# Altium footprint library Eink_Smartwatch.PcbLib: 14 footprints
Each footprint in its own frame and in the unit in brackets; x right, y up, seen from the top. Pads: shape width x height; smd on the part's side, far side on the other; paste and mask are expansions set on the pad; w line width, h text height; cw(c..) or ccw(c..) is an arc to the next point about the centre after c.
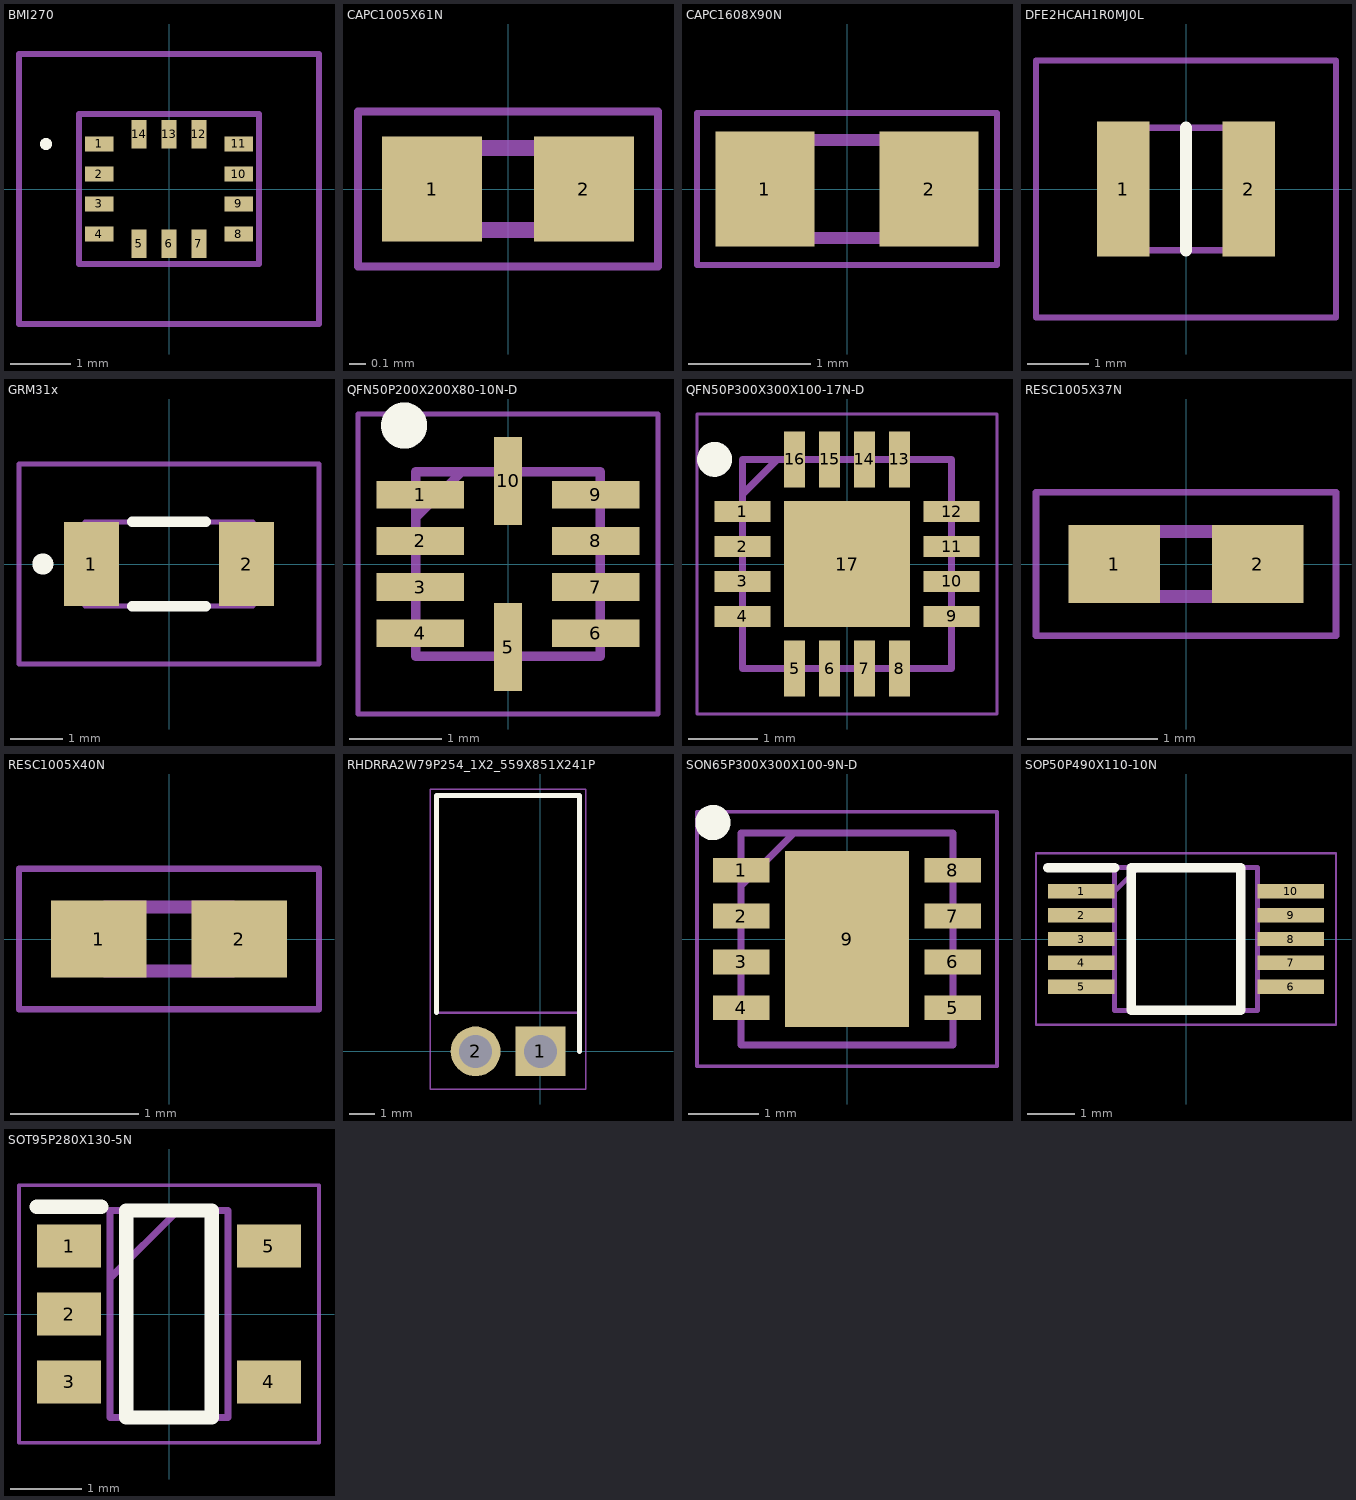
[diagram p0: the footprints below, top view; thin cyan lines are the x and y axes]

## BMI270 [mm]
pads (14):
  rect 0.475x0.25 smd: 1(-1.163,0.75) 2(-1.163,0.25) 3(-1.163,-0.25) 4(-1.163,-0.75) 8(1.163,-0.75) 9(1.163,-0.25) 10(1.163,0.25) 11(1.163,0.75)
  rect 0.25x0.475 smd: 5(-0.5,-0.913) 6(0,-0.913) 7(0.5,-0.913) 12(0.5,0.913) 13(0,0.913) 14(-0.5,0.913)
Top Overlay:
  lines w0.1: -2.1,0.75 ccw(c-2.05,0.75) -2,0.75 ccw(c-2.05,0.75) -2.1,0.75
Mechanical 13:
  lines w0.1: -1.5,-1.25 1.5,-1.25 1.5,1.25 -1.5,1.25 -1.5,-1.25
Mechanical 15:
  lines w0.1: -2.5,-2.25 2.5,-2.25 2.5,2.25 -2.5,2.25 -2.5,-2.25
3D body "BMI270.stp": height 0.97, standoff 0, extent -1.5,-1.25 1.5,1.25

## CAPC1005X61N [mm]
pads (2):
  rect 0.62x0.65 smd: 1(-0.47,0) 2(0.47,0)
Mechanical 13:
  lines w0.1: -0.51,-0.255 -0.51,0.255 0.51,0.255 0.51,-0.255 -0.51,-0.255
Mechanical 15:
  lines w0.05: -0.93,-0.48 -0.93,0.48 0.93,0.48 0.93,-0.48 -0.93,-0.48
3D body "0402X7R104KT7AT.stp": height 0.61, standoff 0, extent -0.51,-0.255 0.51,0.255

## CAPC1608X90N [mm]
pads (2):
  rect 0.81x0.94 smd: 1(-0.67,0) 2(0.67,0)
Mechanical 13:
  lines w0.1: -0.8,-0.4 0.8,-0.4 0.8,0.4 -0.8,0.4 -0.8,-0.4
Mechanical 15:
  lines w0.05: -1.225,-0.62 1.225,-0.62 1.225,0.62 -1.225,0.62 -1.225,-0.62
3D body "LMK107BJ106MALTD.stp": height 0.9, standoff 0, extent -0.8,-0.4 0.8,0.4

## DFE2HCAH1R0MJ0L [mm]
pads (2):
  rect 0.85x2.2 smd: 1(-1.025,0) 2(1.025,0)
Top Overlay:
  lines w0.2: 0,-1 0,1
Mechanical 13:
  lines w0.1: -1.25,-1 -1.25,1 1.25,1 1.25,-1 -1.25,-1
Mechanical 15:
  lines w0.1: -2.45,-2.1 -2.45,2.1 2.45,2.1 2.45,-2.1 -2.45,-2.1
3D body "1239AS-H-100M=P2.stp": height 1.2, standoff 0, extent -1.25,-1 1.25,1

## GRM31x [mm]
pads (2):
  rect 1.05x1.6 smd: 1(-1.475,0) 2(1.475,0)
Top Overlay:
  lines w0.2: -0.7,-0.8 0.7,-0.8 ; -0.7,0.8 0.7,0.8 ; -2.4,-0.1 ccw(c-2.4,0) -2.4,0.1 ccw(c-2.4,0) -2.4,-0.1
Mechanical 13:
  lines w0.1: -1.6,-0.8 -1.6,0.8 1.6,0.8 1.6,-0.8 -1.6,-0.8
Mechanical 15:
  lines w0.1: -2.854,-1.902 -2.854,1.902 2.854,1.902 2.854,-1.902 -2.854,-1.902
3D body "GRM31CZ72A475KE11K.stp": height 1, standoff 0, extent -1.6,-0.8 1.6,0.8

## PCBComponent_1 [mm]

## QFN50P200X200X80-10N-D [mm]
pads (10):
  rect 0.95x0.3 smd: 1(-0.95,0.75) 2(-0.95,0.25) 3(-0.95,-0.25) 4(-0.95,-0.75) 6(0.95,-0.75) 7(0.95,-0.25) 8(0.95,0.25) 9(0.95,0.75)
  rect 0.3x0.95 smd: 5(0,-0.9) 10(0,0.9)
Top Overlay:
  circle w0.25: c-1.125,1.5 r0.125
Mechanical 13:
  lines w0.1: -1,0.5 -0.5,1 ; -1,-1 -1,1 1,1 1,-1 -1,-1
Mechanical 15:
  lines w0.05: -1.625,-1.625 -1.625,1.625 1.625,1.625 1.625,-1.625 -1.625,-1.625
3D body "DRV2603RUNT.stp": height 0.8, standoff 0, extent -1,-1 1,1

## QFN50P300X300X100-17N-D [mm]
pads (17):
  rect 0.8x0.3 smd: 1(-1.5,0.75) 2(-1.5,0.25) 3(-1.5,-0.25) 4(-1.5,-0.75) 9(1.5,-0.75) 10(1.5,-0.25) 11(1.5,0.25) 12(1.5,0.75)
  rect 0.3x0.8 smd: 5(-0.75,-1.5) 6(-0.25,-1.5) 7(0.25,-1.5) 8(0.75,-1.5) 13(0.75,1.5) 14(0.25,1.5) 15(-0.25,1.5) 16(-0.75,1.5)
  rect 1.8x1.8 smd: 17(0,0)
Top Overlay:
  circle w0.25: c-1.9,1.5 r0.125
Mechanical 13:
  lines w0.1: -1.5,1 -1,1.5 ; -1.5,-1.5 -1.5,1.5 1.5,1.5 1.5,-1.5 -1.5,-1.5
Mechanical 15:
  lines w0.05: -2.15,-2.15 -2.15,2.15 2.15,2.15 2.15,-2.15 -2.15,-2.15
3D body "BQ24075TRGTR.stp": height 1, standoff 0, extent -1.55,-1.55 1.55,1.55

## RESC1005X37N [mm]
pads (2):
  rect 0.7x0.6 smd: 1(-0.55,0) 2(0.55,0)
Mechanical 13:
  lines w0.1: -0.5,-0.25 -0.5,0.25 0.5,0.25 0.5,-0.25 -0.5,-0.25
Mechanical 15:
  lines w0.05: -1.15,-0.55 -1.15,0.55 1.15,0.55 1.15,-0.55 -1.15,-0.55
3D body "MCS0402MD1002BE100.stp": height 0.32, standoff 0, extent -0.5,-0.25 0.5,0.25

## RESC1005X40N [mm]
pads (2):
  rect 0.75x0.6 smd: 1(-0.55,0) 2(0.55,0)
Mechanical 13:
  lines w0.1: -0.5,-0.25 -0.5,0.25 0.5,0.25 0.5,-0.25 -0.5,-0.25
Mechanical 15:
  lines w0.05: -1.175,-0.55 -1.175,0.55 1.175,0.55 1.175,-0.55 -1.175,-0.55
3D body "CR0402-JW-222GLF.stp": height 0.35, standoff 0, extent -0.5,-0.25 0.5,0.25

## RHDRRA2W79P254_1X2_559X851X241P [mm]
pads (2):
  rect 1.95x1.95 hole 1.3: 1(0,0)
  round 1.95 hole 1.3: 2(-2.54,0)
Top Overlay:
  lines w0.2: -4.065,1.52 -4.065,10.03 1.525,10.03 1.525,0
Mechanical 13:
  lines w0.1: -4.065,1.52 -4.065,10.03 1.525,10.03 1.525,1.52 -4.065,1.52
Mechanical 15:
  lines w0.05: -4.315,-1.475 -4.315,10.28 1.775,10.28 1.775,-1.475 -4.315,-1.475
3D body "SSW-102-02-T-S-RA-001.stp": height 2.41, standoff -2.54, extent -4.065,-0.395 1.525,10.03

## SON65P300X300X100-9N-D [mm]
pads (9):
  rect 0.8x0.35 smd: 1(-1.5,0.975) 2(-1.5,0.325) 3(-1.5,-0.325) 4(-1.5,-0.975) 5(1.5,-0.975) 6(1.5,-0.325) 7(1.5,0.325) 8(1.5,0.975)
  rect 1.75x2.5 smd: 9(0,0)
Top Overlay:
  circle w0.25: c-1.9,1.65 r0.125
Mechanical 13:
  lines w0.1: -1.5,0.75 -0.75,1.5 ; -1.5,-1.5 -1.5,1.5 1.5,1.5 1.5,-1.5 -1.5,-1.5
Mechanical 15:
  lines w0.05: -2.125,-1.8 -2.125,1.8 2.125,1.8 2.125,-1.8 -2.125,-1.8
3D body "NCV8187AMLE330TCG.stp": height 1, standoff 0, extent -1.55,-1.5 1.55,1.5

## SOP50P490X110-10N [mm]
pads (10):
  rect 1.4x0.3 smd: 1(-2.2,1) 2(-2.2,0.5) 3(-2.2,0) 4(-2.2,-0.5) 5(-2.2,-1) 6(2.2,-1) 7(2.2,-0.5) 8(2.2,0) 9(2.2,0.5) 10(2.2,1)
Top Overlay:
  lines w0.2: -2.9,1.5 -1.5,1.5 ; -1.15,-1.5 -1.15,1.5 1.15,1.5 1.15,-1.5 -1.15,-1.5
Mechanical 13:
  lines w0.1: -1.5,1 -1,1.5 ; -1.5,-1.5 -1.5,1.5 1.5,1.5 1.5,-1.5 -1.5,-1.5
Mechanical 15:
  lines w0.05: -3.15,-1.8 -3.15,1.8 3.15,1.8 3.15,-1.8 -3.15,-1.8
3D body "DRV2605LDGST.stp": height 1.1, standoff 0, extent -2.463,-1.5 2.463,1.5

## SOT95P280X130-5N [mm]
pads (5):
  rect 0.9x0.6 smd: 1(-1.4,0.95) 2(-1.4,0) 3(-1.4,-0.95) 4(1.4,-0.95) 5(1.4,0.95)
Top Overlay:
  lines w0.2: -1.85,1.5 -0.95,1.5 ; -0.6,-1.45 -0.6,1.45 0.6,1.45 0.6,-1.45 -0.6,-1.45
Mechanical 13:
  lines w0.1: -0.825,0.5 0.125,1.45 ; -0.825,-1.45 -0.825,1.45 0.825,1.45 0.825,-1.45 -0.825,-1.45
Mechanical 15:
  lines w0.05: -2.1,-1.8 -2.1,1.8 2.1,1.8 2.1,-1.8 -2.1,-1.8
3D body "XC9265A331MR-G.stp": height 1.3, standoff 0, extent -1.4,-1.45 1.4,1.45